# Altium schematic symbol library sensor_light.SchLib: 46 symbols
Pins are listed as number, name and electrical type; pins without a type are passive.

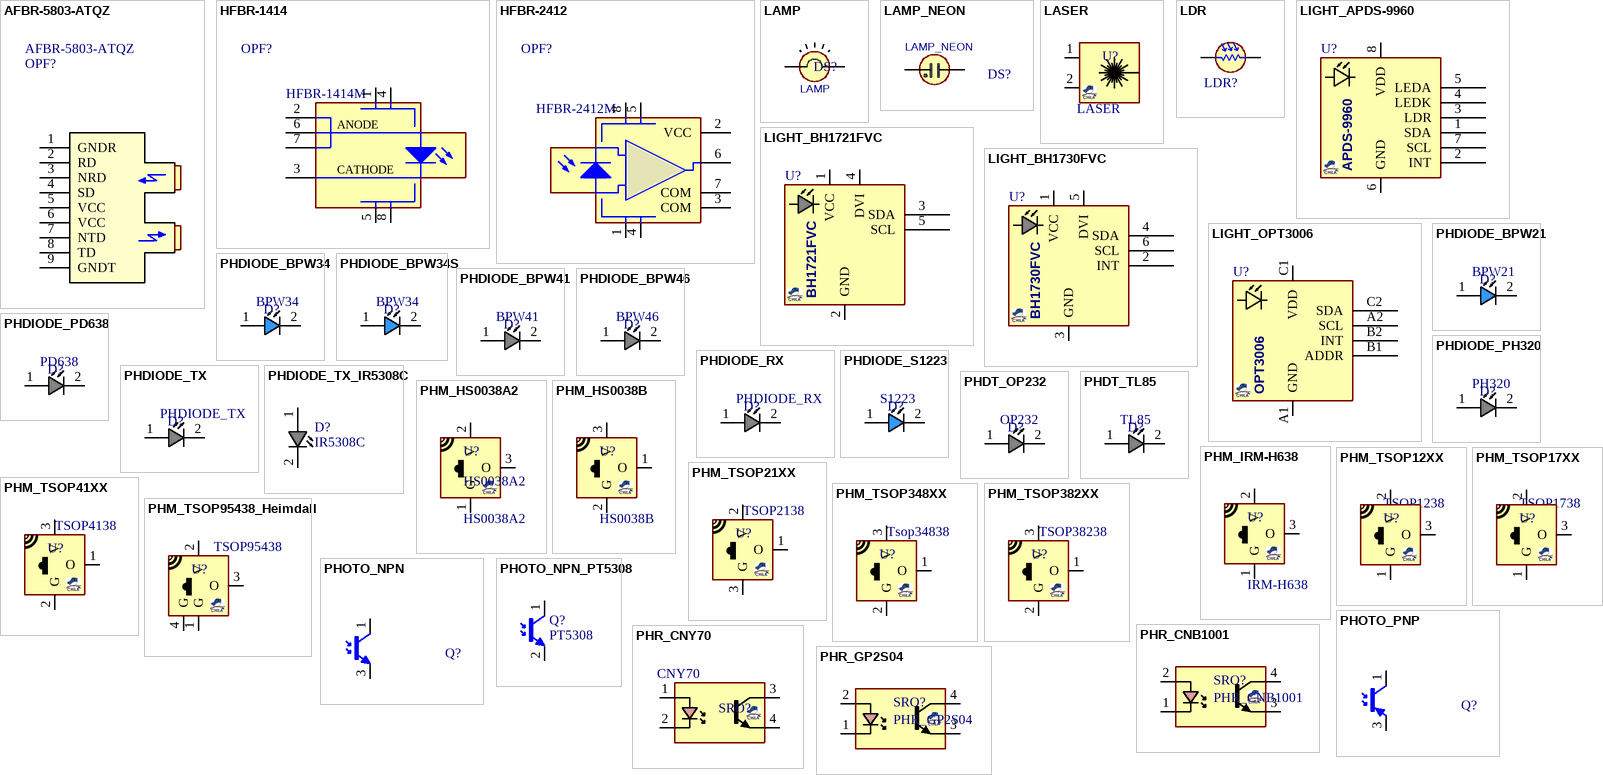
[diagram p0: symbols AFBR-5803-ATQZ to PHR_GP2S04]

## AFBR-5803-ATQZ
designator OPF?
Fiber Optics, Transceiver Modules; MANF: Broadcom; MANF_P#: AFBR-5803-ATQZ; PRICE: $37; Value: AFBR-5803-ATQZ
footprint AFBR-5803AQZ (¹âÒÔÌ«Íø)
pins: 1 GNDR, 2 RD, 3 NRD, 4 SD, 5 VCC, 6 VCC, 7 NTD, 8 TD, 9 GNDT

## HFBR-1414
designator OPF?, comment HFBR-1414M
Fiber Optic; Value: HFBR-1414M
footprint HFBR-X41XMZ
pins: 1 NC, 2 ANODE, 3 CATHODE, 4 NC, 5 NC, 6 ANODE, 7 ANODE, 8 NC

## HFBR-2412
designator OPF?, comment HFBR-2412M
Fiber Optic; Value: HFBR-2412M
footprint HFBR-X41XMZ
pins: 1 NC, 2 VCC, 3 COM, 4 NC, 5 NC, 6 DATA, 7 COM, 8 NC

## LAMP
designator DS?
Incandescent Bulb; Value: LAMP
footprint HDR_M_1X2 (Connector; Header; 2 Position)
pins: 1, 2

## LAMP_NEON
designator DS?
Neon Bulb; Value: LAMP_NEON
footprint HDR_M_1X2 (Connector; Header; 2 Position)
pins: 1, 2

## LASER
designator U?
Laser small bronze head (red), 9mm; PARAM2: 15 meters spot to φ10mm ~ φ15mm; PARAM: 3V, 20mA, 50mW; PRICE: 6500toman@ECA; Value: LASER
footprint LASER (Laser small bronze head (red))
pins: 1 V+, 2 V-

## LDR
designator LDR?, comment PhotoCell  (value not drawn)
Photo Cell- Variable Resistor With Light; Value: PhotoCell
footprint PhotoCell
pins: 1, 2

## LIGHT_APDS-9960
designator U?, comment APDS-9960  (value not drawn)
Sensor, Light, I2C, RGB+clear+up/down/left/right; MANF: AVAGO; PARAM2: 2.4~3.6Vcc, 3~4.5VLED; PARAM: -40~85°C; MANF_P#: APDS-9960; PRICE: 1.5$; VALUE: APDS-9960
footprint APDS9960 (APDS-9960 light sensor, 2.4x4x1.35mm, 1.4mm pitch)
pins: 1 SDA, 2 INT, 3 LDR, 4 LEDK, 5 LEDA, 6 GND, 7 SCL, 8 VDD

## LIGHT_BH1721FVC
designator U?, comment BH1721FVC  (value not drawn)
Sensor, Light, digital I2C, 1~65k lx; MANF: ROHM; PARAM2: 2.4~3.6Vcc, I2C 1.65~VCC; PARAM: 1~65k lx, -40~85°C; MANF_P#: BH1721FVC; PRICE: 0.5$; VALUE: BH1721FVC
footprint WSOF5 (ROHM light sensor, 1.6x1.6x0.6mm, 0.5mm pitch)
pins: 1 VCC, 2 GND, 3 SDA, 4 DVI, 5 SCL

## LIGHT_BH1730FVC
designator U?, comment BH1730FVC  (value not drawn)
Sensor, Light, digital I2C, 0.001~100k lx; MANF: ROHM; PARAM2: 2.4~3.6Vcc, I2C 1.65~VCC; PARAM: 0.001~100k lx, -40~85°C; MANF_P#: BH1730FVC; PRICE: 1.8$; VALUE: BH1730FVC
footprint WSOF6 (ROHM light sensor, 1.6x3x0.75mm, 0.5mm pitch)
pins: 1 VCC, 2 INT, 3 GND, 4 SDA, 5 DVI, 6 SCL

## LIGHT_OPT3006
designator U?, comment OPT3006  (value not drawn)
Sensor, Light, I2C, 0.01~83k lx; MANF: Texas Instruments; MANF_P#: OPT3006YMF; PARAM2: 1.6~3.6Vcc, 3~4.5VLED; PARAM: 0.01~83k lx, -40~85°C; PRICE: 1$; VALUE: OPT3006
footprint YMF_6 (YMF0006A PicoStar, 0.85x0.95x0.22mm, 0.35mm pitch)
pins: A1 GND, A2 SCL, B1 ADDR, B2 INT, C1 VDD, C2 SDA

## PHDIODE_BPW21
designator D?, comment BPW21
Photodiode,; MANF: VISHAY; MANF_P#: BPW21R; Value: BPW21
footprint DPH_TO18 (LED TO-18 TO-5 form)
pins: 1 ANODE, 2 CATHODE

## PHDIODE_BPW34
designator D?, comment BPW34
Photodiode, 2nA, 32Vr, 20ns, 60deg, 850nm; MANF: OSRAM, VISHAY; MANF_P#: BPW34B, BPW34; PARAM2: 60deg, 850nm; PARAM: 2nA, 32Vr, 20ns; PRICE: $1; Value: BPW34
footprint DIL_2 (Photodiode, Silicon PIN, BPW34)
pins: 1 ANODE, 2 CATHODE

## PHDIODE_BPW34S
designator D?, comment BPW34
Photodiode, 2nA, 32Vr, 20ns, 60deg, 850nm; MANF: OSRAM, VISHAY; MANF_P#: BPW34BS, BPW34S; PARAM2: 60deg, 850nm; PARAM: 2nA, 32Vr, 20ns; PRICE: $1; Value: BPW34
footprint DIL_2S (Photodiode, Silicon PIN, BPW34S)
pins: 1 ANODE, 2 CATHODE

## PHDIODE_BPW41
designator D?, comment BPW41
Photodiode, PIN, 2nA, 60Vr, 100ns, 950nm; MANF: VISHAY; MANF_P#: BPW41N; PARAM2: 950nm; PARAM: 2nA, 60Vr, 100ns; PRICE: $1; Value: BPW41
footprint DPH_2_BPW41 (Photodiode, Silicon PIN, BPW41)
pins: 1 ANODE, 2 CATHODE

## PHDIODE_BPW46
designator D?, comment BPW46
Photodiode, PIN, 2nA, 60Vr, 100ns, 900nm; MANF: VISHAY; MANF_P#: BPW46; PARAM2: 900nm; PARAM: 2nA, 60Vr, 100ns; PRICE: $1; Value: BPW46
footprint DPH_2_BPW46 (Photodiode, Silicon PIN, BPW46)
pins: 1 ANODE, 2 CATHODE

## PHDIODE_PD638
designator D?, comment PD638
Photodiode, PIN, 5nA, 32Vr, 50ns, 940nm; MANF: Everlight; MANF_P#: PD638B; PARAM2: 940nm; PARAM: 5nA, 32Vr, 50ns,; PRICE: 500toman@JAVAN; Value: PD638
footprint DPH_2_BPW46 (Photodiode, Silicon PIN, BPW46)
pins: 1 ANODE, 2 CATHODE

## PHDIODE_PH320
designator D?, comment PH320
Photodiode, PIN, 4uA, 32Vr, 30ns, 940nm; MANF: NEC; MANF_P#: PH320; PARAM2: 940nm; PARAM: 4uA, 32Vr, 30ns; PRICE: 500toman@JAVAN; Value: PH320
footprint DPH_2_BPW46 (Photodiode, Silicon PIN, BPW46)
pins: 1 ANODE, 2 CATHODE

## PHDIODE_RX
designator D?
LED, Infrared Receiver; MANF: -; MANF_P#: -; PARAM2: -; PARAM: -; PRICE: 100toman@JAVAN; Value: PHDIODE_RX
footprint LED3MM (LED THD 3MM)
footprint LED5MM_VIO (LED THD 5MM VIOLET)
footprint LED5MM_VIO_R (LED THD 5MM VIOLET)
footprint DPH_3MM (PHOTO TRANSISTOR, LED 3mm dia lens, 0.100" pitch)
footprint DPH_TO46R (LED TO-46 form, edge straddling)
pins: 1 ANODE, 2 CATHODE

## PHDIODE_S1223
designator D?, comment S1223
Photodiode,; MANF: HAMAMATSU; PARAM2: 960nm; MANF_P#: S1223; Value: S1223
footprint DPH_TO18 (LED TO-18 TO-5 form)
pins: 1 ANODE, 2 CATHODE

## PHDIODE_TX
designator D?
LED, Infrared Transmitter; MANF: -; MANF_P#: -; PARAM2: -; PARAM: -; PRICE: 100toman@JAVAN; Value: PHDIODE_TX
footprint LED3MM (LED THD 3MM)
footprint LED5MM_VIO (LED THD 5MM VIOLET)
footprint LED5MM_VIO_R (LED THD 5MM VIOLET)
footprint DPH_3MM (PHOTO TRANSISTOR, LED 3mm dia lens, 0.100" pitch)
footprint DPH_TO46R (LED TO-46 form, edge straddling)
pins: 1 ANODE, 2 CATHODE

## PHDIODE_TX_IR5308C
designator D?, comment IR5308C
LED, Infrared Transmitter; MANF: -; MANF_P#: -; PARAM2: -; PARAM: -; PRICE: 100toman@JAVAN; Value: IR5308C
footprint LED5MM_SMD (LED THD 5MM BLUE)
footprint LED5MM_VIO (LED THD 5MM VIOLET)
footprint LED5MM_VIO_R (LED THD 5MM VIOLET)
footprint DPH_3MM (PHOTO TRANSISTOR, LED 3mm dia lens, 0.100" pitch)
footprint DPH_TO46R (LED TO-46 form, edge straddling)
pins: 1 ANODE, 2 CATHODE

## PHDT_OP232
designator D?, comment OP232
Infrared LED, 100mA, 2V, 890nm; MANF: Optek; PARAM2: 890nm, 18deg, 500ns; MANF_P#: OP232; PARAM: 100mA, 2V; PRICE: $2.6; Value: OP232
footprint DPH_TO46R (LED TO-46 form, edge straddling)
footprint DPH_TO46 (LED TO-46 form, edge straddling)
pins: 1 ANODE, 2 CATHODE

## PHDT_TL85
designator D?, comment TL85
Infrared LED, 100mA, 5V, 850nm; MANF: iC-Haus; MANF_P#: iC-TL85; PARAM2: 850nm; PARAM: 100mA, 5V; PRICE: -; Value: TL85
footprint DPH_TO46R (LED TO-46 form, edge straddling)
footprint DPH_TO46 (LED TO-46 form, edge straddling)
pins: 1 ANODE, 2 CATHODE

## PHM_HS0038A2
designator U?, comment HS0038A2
Photo Modules for PCM Remote Control Systems; MANF: VISHAY; PARAM2: 5V, 50 mW; PARAM: 38KHz; MANF_P#: HS0038A2; PRICE: 1000toman@PAYA; Value: HS0038A2
footprint PHM_TSOP1XX_3 (Photo Modules for PCM Remote Control Systems)
footprint PHM_TSOP1XX_3B (IR Sensor (TV Sensor))
pins: 1 G, 2 V, 3 O

## PHM_HS0038B
designator U?, comment HS0038B
Photo Modules for PCM Remote Control Systems; MANF: VISHAY; PARAM2: 5V, 50mW; PARAM: 38KHz; MANF_P#: HS0038B; PRICE: -; Value: HS0038B
footprint PHM_IRMH6 (PHOTO, Reflective Optical Sensor, IRM-H638)
pins: 1 O, 2 G, 3 V

## PHM_IRM-H638
designator U?, comment IRM-H638
Photo Modules for PCM Remote Control Systems; MANF: Everlight; MANF_P#: IRM-H638-TR2; PARAM2: 2.7~5.5V, 50 mW; PARAM: 38KHz; PRICE: 2600toman@JAVAN; Value: IRM-H638
footprint PHM_TSOP1XX_3 (Photo Modules for PCM Remote Control Systems)
footprint PHM_TSOP1XX_3B (IR Sensor (TV Sensor))
pins: 1 G, 2 V, 3 O

## PHM_TSOP12XX
designator U?, comment TSOP1238
Photo Modules for PCM Remote Control Systems; MANF: VISHAY; PARAM2: 2.5~5.5V, 50 mW; PARAM: 38KHz; MANF_P#: TSOP1238; Value: TSOP1238
footprint PHM_TSOP1XX_3 (Photo Modules for PCM Remote Control Systems)
footprint PHM_TSOP1XX_3B (IR Sensor (TV Sensor))
pins: 1 G, 2 V, 3 O

## PHM_TSOP17XX
designator U?, comment TSOP1738
IR Receiver Modules for Remote Control Systems; MANF: VISHAY; PARAM2: 2.5~5.5V, 50mW; PARAM: 38KHz; MANF_P#: TSOP1738; PRICE: 3500toman@PAYA; Value: TSOP1738
footprint PHM_TSOP1XX_3 (Photo Modules for PCM Remote Control Systems)
footprint PHM_TSOP1XX_3B (IR Sensor (TV Sensor))
pins: 1 G, 2 V, 3 O

## PHM_TSOP21XX
designator U?, comment TSOP2138
IR Receiver Modules for Remote Control Systems; MANF: VISHAY; PARAM2: 2.5~5.5V, 50mW; PARAM: 38KHz; MANF_P#: TSOP2138; PRICE: $1.2; Value: TSOP2138
footprint PHM_TSOP3XX_3 (HS0038B, SFH5110, TSOP322.., TSOP324.., TSOP344.., TSOP348..)
footprint PHM_TSOP3XX_3B (TSOP3XX_BENDED)
pins: 1 O, 2 V, 3 G

## PHM_TSOP41XX
designator U?, comment TSOP4138
IR Receiver Modules for Remote Control Systems; MANF: VISHAY; PARAM2: 2.5~5.5V, 50mW; PARAM: 38KHz; MANF_P#: TSOP4138; PRICE: $1.2; Value: TSOP4138
footprint PHM_TSOP3XX_3 (HS0038B, SFH5110, TSOP322.., TSOP324.., TSOP344.., TSOP348..)
footprint PHM_TSOP3XX_3B (TSOP3XX_BENDED)
pins: 1 O, 2 G, 3 V

## PHM_TSOP348XX
designator U?, comment Tsop34838
IR Receiver Modules for Remote Control Systems; MANF: VISHAY; PARAM2: 2.5~5.5V, 50mW; PARAM: 38KHz; MANF_P#: Tsop34838; PRICE: 2000toman@PAYA; Value: Tsop34838
footprint PHM_TSOP3XX_3 (HS0038B, SFH5110, TSOP322.., TSOP324.., TSOP344.., TSOP348..)
footprint PHM_TSOP3XX_3B (TSOP3XX_BENDED)
pins: 1 O, 2 G, 3 V

## PHM_TSOP382XX
designator U?, comment TSOP38238
IR Receiver Modules for Remote Control Systems; MANF: VISHAY; PARAM2: 2.5~5.5V, 50mW; PARAM: 38KHz; MANF_P#: TSOP38238; PRICE: -; Value: TSOP38238
footprint PHM_TSOP3XX_3 (HS0038B, SFH5110, TSOP322.., TSOP324.., TSOP344.., TSOP348..)
footprint PHM_TSOP3XX_3B (TSOP3XX_BENDED)
pins: 1 O, 2 G, 3 V

## PHM_TSOP95438_Heimdall
designator U?, comment TSOP95438
IR Receiver Modules for Remote Control Systems; MANF: VISHAY; PARAM2: 2~3.6V, 10mW; PARAM: 38KHz, 25m Distance; MANF_P#: TSOP95438; PRICE: 1.8$; Value: TSOP95438
footprint PHM_TSOPHEIMDALL (HEIMDALL, TSOP952-4, TSOP753-4, TSOP773-4 ...)
pins: 1 G, 2 V, 3 O, 4 G

## PHOTO_NPN
designator Q?
NPN Phototransistor
footprint LED5MM_VIO (LED THD 5MM VIOLET)
pins: 1 C, 3 E

## PHOTO_NPN_PT5308
designator Q?, comment PT5308
NPN Phototransistor; PRICE: paya-IranMicro 700t; Value: PT5308
footprint LED5MM_VIO (LED THD 5MM VIOLET)
pins: 1 C, 2 E

## PHOTO_PNP
designator Q?
PNP Phototransistor
footprint LED5MM_VIO (LED THD 5MM VIOLET)
pins: 1 C, 3 E

## PHR_CNB1001
designator SRO?
PHOTO, Reflective Optical Sensor; MANF: Panasonic; MANF_P#: CNB1001; PRICE: 900toman@JAVAN; Value: CNB1001
footprint PHR_GP2S07 (PHOTO, Reflective Optical Sensor, GP2S07)
pins: 1 K, 2 A, 3 E, 4 C

## PHR_CNY70
designator SRO?, comment CNY70
PHOTO, Reflective Optical Sensor; MANF: VISHAY; PARAM: 1mA; MANF_P#: CNY70; PRICE: 3000toman@PAYA; VALUE: CNY70
footprint PHR_CNY70
pins: 1 A "Anode", 2 K "Cathode", 3 C "Collector", 4 E "Emitter"

## PHR_GP2S04
designator SRO?
PHOTO, Reflective Optical Sensor; MANF: SHARP; MANF_P#: GP2S04; Value: GP2S04; PRICE: -
footprint PHR_GP2S04 (PHOTO, Reflective Optical Sensor, GP2S04)
pins: 1 K, 2 A, 3 E, 4 C

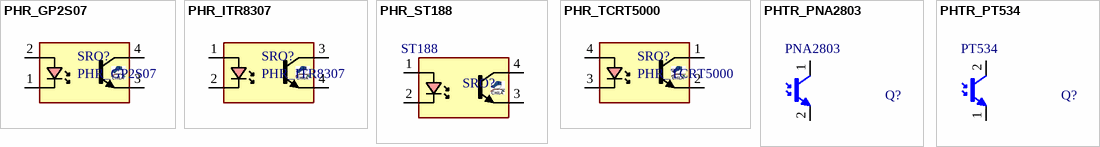
[diagram p1: symbols PHR_GP2S07 to PHTR_PT534]

## PHR_GP2S07
designator SRO?
PHOTO, Reflective Optical Sensor; MANF: SHARP; MANF_P#: GP2S07; Value: GP2S07; PRICE: -
footprint PHR_GP2S07 (PHOTO, Reflective Optical Sensor, GP2S07)
pins: 1 K, 2 A, 3 E, 4 C

## PHR_ITR8307
designator SRO?
PHOTO, Reflective Optical Sensor; MANF: Everlight; MANF_P#: ITR8307/L24; PRICE: 900toman@JAVAN; Value: ITR8307
footprint PHR_ITR8307 (PHOTO, Reflective Optical Sensor, ITR8307)
pins: 1 A, 2 K, 3 C, 4 E

## PHR_ST188
designator SRO?, comment ST188
PHOTO, Reflective Optical Sensor; PRICE: PRICE; VALUE: ST188
footprint PHR_ST188 (PHOTO, Reflective Optical Sensor, ST188)
pins: 1 A "Anode", 2 K "Cathode", 3 E "Emitter", 4 C "Collector"

## PHR_TCRT5000
designator SRO?
PHOTO, Reflective Optical Sensor; MANF: VISHAY; MANF_P#: TCRT5000; PRICE: 900toman@ECA; Value: TCRT5000
footprint PHR_TCRT5 (PHOTO, Reflective Optical Sensor (Vishay) tcrt5000)
pins: 1 C, 2 E, 3 K, 4 A

## PHTR_PNA2803
designator Q?, comment PNA2803
Phototransistor, NPN, Darlington,; MANF: Panasonic; PARAM: 20V, 30mA; MANF_P#: PNA2803; Value: PNA2803
footprint LED3MM (LED THD 3MM)
pins: 1 C, 2 E

## PHTR_PT534
designator Q?, comment PT534
Phototransistor, NPN,; MANF: Everlight; MANF_P#: PT534-6B; PARAM: -; PRICE: 400toman@JAVAN; Value: PT534
footprint PHTR_2 (Photransistor, PT534-6B)
pins: 1 E, 2 C